# Altium footprint library Con FPC-FFC.PcbLib: 52 footprints (part 2 of 4)
Each footprint in its own frame and in the unit in brackets; x right, y up, seen from the top. Pads: shape width x height; smd on the part's side, far side on the other; paste and mask are expansions set on the pad; w line width, h text height; cw(c..) or ccw(c..) is an arc to the next point about the centre after c.
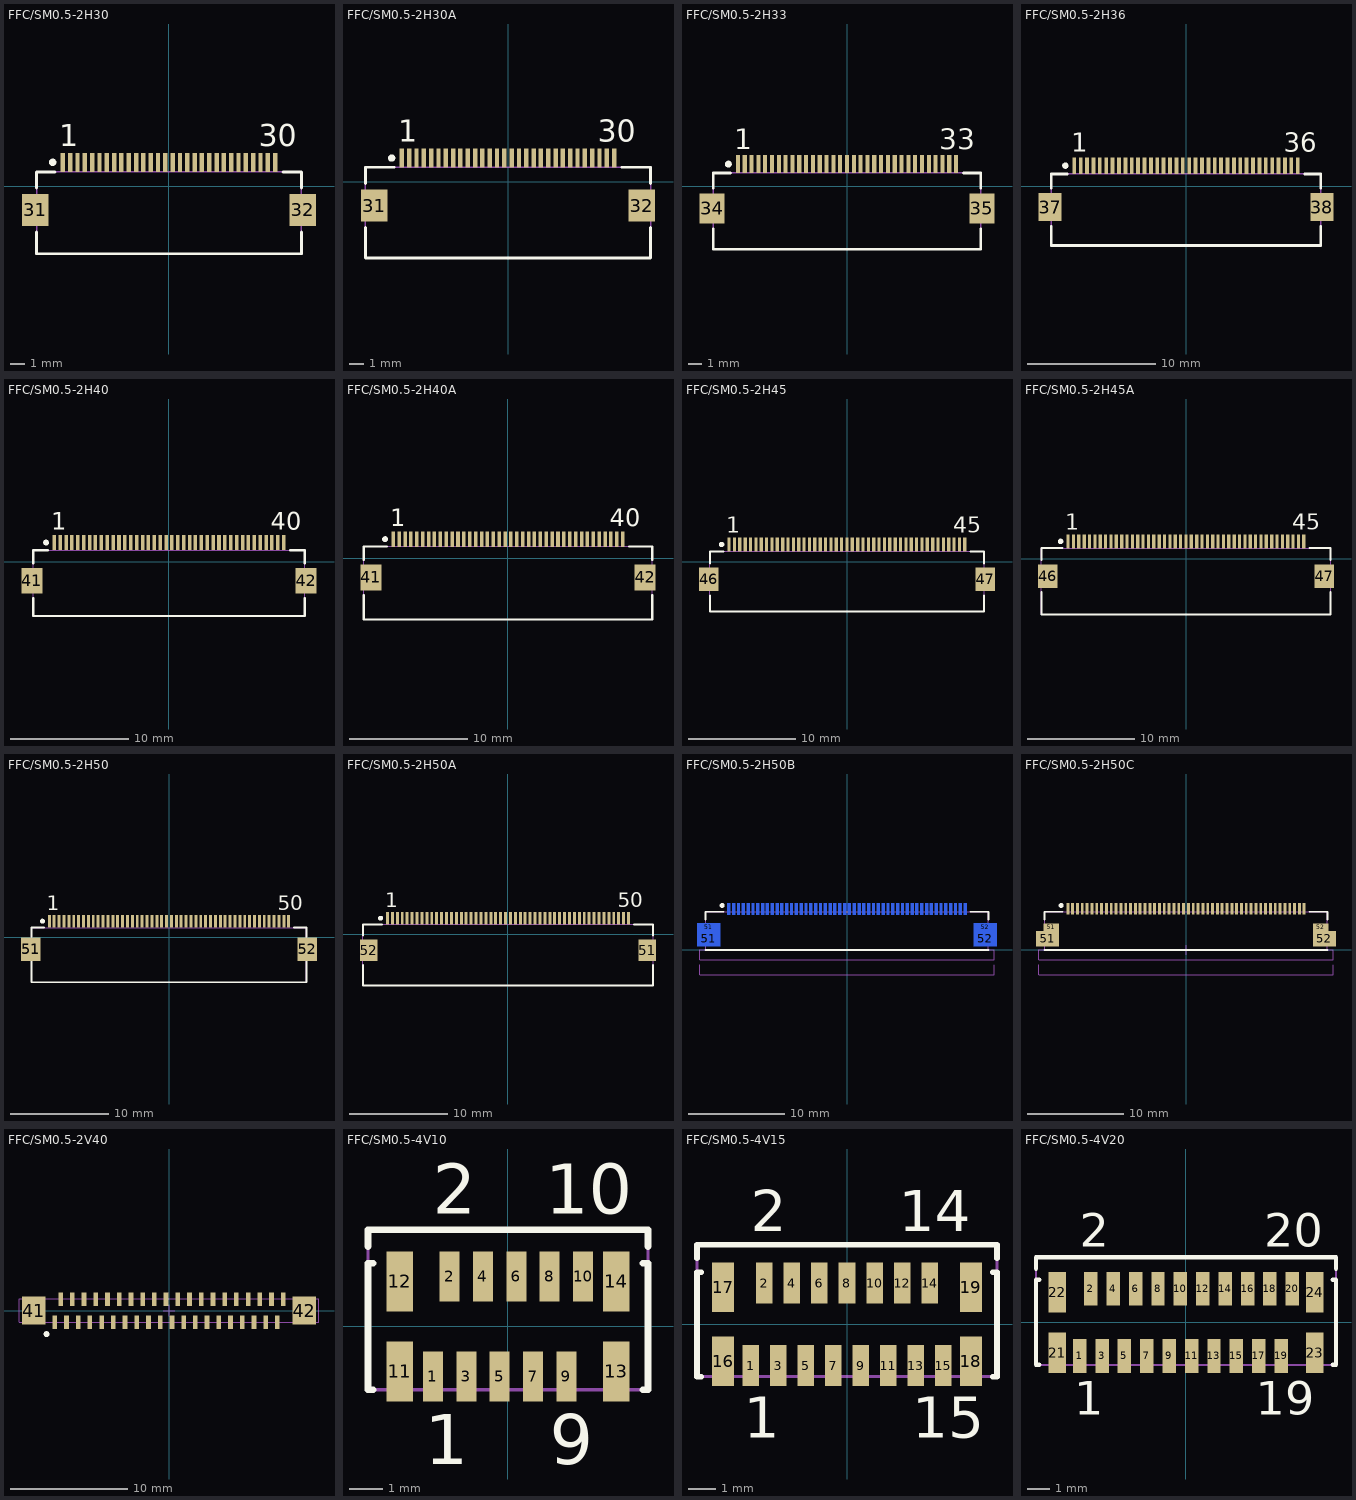
[diagram p1: the footprints below, top view; thin cyan lines are the x and y axes]

## FFC/SM0.5-2H30 [mm] "Connector; FH12 Series; 30 Position; 0.5mm Spaced Bottom Contact"
height 2
pads (32):
  rect 0.3x1.3 smd: 1(-7.25,1.625) 2(-6.75,1.625) 3(-6.25,1.625) 4(-5.75,1.625) 5(-5.25,1.625) 6(-4.75,1.625) 7(-4.25,1.625) 8(-3.75,1.625) 9(-3.25,1.625) 10(-2.75,1.625) 11(-2.25,1.625) 12(-1.75,1.625) 13(-1.25,1.625) 14(-0.75,1.625) 15(-0.25,1.625) 16(0.25,1.625) 17(0.75,1.625) 18(1.25,1.625) 19(1.75,1.625) 20(2.25,1.625) 21(2.75,1.625) 22(3.25,1.625) 23(3.75,1.625) 24(4.25,1.625) 25(4.75,1.625) 26(5.25,1.625) 27(5.75,1.625) 28(6.25,1.625) 29(6.75,1.625) 30(7.25,1.625)
  rect 1.8x2.2 smd: 31(-9.15,-1.625) 32(9.15,-1.625)
Top Overlay:
  circle w0.25: c-7.95,1.625 r0.125
  lines w0.2: -9.05,-3.125 -9.05,-4.625 9.05,-4.625 9.05,-3.125 ; -9.05,-0.125 -9.05,0.975 -7.8,0.975 ; 7.8,0.975 9.05,0.975 9.05,-0.125
  text "30" at 6.15,2.725 h1.5
  text "1" at -7.5,2.725 h1.5
Mechanical 13:
  lines w0.1: -9.05,-4.625 9.05,-4.625 9.05,0.975 -9.05,0.975 -9.05,-4.625
3D body: height 2, standoff 0, extent -9.05,-4.625 9.05,0.975

## FFC/SM0.5-2H30A [mm] "Connector; FH12 Series; 30 Position; 0.5mm Spaced Top Contact"
height 2
pads (32):
  rect 0.3x1.3 smd: 1(-7.25,1.625) 2(-6.75,1.625) 3(-6.25,1.625) 4(-5.75,1.625) 5(-5.25,1.625) 6(-4.75,1.625) 7(-4.25,1.625) 8(-3.75,1.625) 9(-3.25,1.625) 10(-2.75,1.625) 11(-2.25,1.625) 12(-1.75,1.625) 13(-1.25,1.625) 14(-0.75,1.625) 15(-0.25,1.625) 16(0.25,1.625) 17(0.75,1.625) 18(1.25,1.625) 19(1.75,1.625) 20(2.25,1.625) 21(2.75,1.625) 22(3.25,1.625) 23(3.75,1.625) 24(4.25,1.625) 25(4.75,1.625) 26(5.25,1.625) 27(5.75,1.625) 28(6.25,1.625) 29(6.75,1.625) 30(7.25,1.625)
  rect 1.8x2.2 smd: 31(-9.15,-1.625) 32(9.15,-1.625)
Top Overlay:
  circle w0.25: c-7.95,1.625 r0.125
  lines w0.2: -9.75,-3.125 -9.75,-5.2 9.75,-5.2 9.75,-3.125 ; -9.75,-0.125 -9.75,1 -7.8,1 ; 7.8,1 9.75,1 9.75,-0.125
  text "30" at 6.15,2.725 h1.5
  text "1" at -7.5,2.725 h1.5
Mechanical 13:
  lines w0.1: -9.75,-5.2 9.75,-5.2 9.75,1 -9.75,1 -9.75,-5.2
3D body: height 2, standoff 0, extent -9.75,-5.2 9.75,1

## FFC/SM0.5-2H33 [mm] "Connector; FH12 Series; 33 Position; 0.5mm Spaced Bottom Contact"
height 2
pads (35):
  rect 0.3x1.3 smd: 1(-8,1.625) 2(-7.5,1.625) 3(-7,1.625) 4(-6.5,1.625) 5(-6,1.625) 6(-5.5,1.625) 7(-5,1.625) 8(-4.5,1.625) 9(-4,1.625) 10(-3.5,1.625) 11(-3,1.625) 12(-2.5,1.625) 13(-2,1.625) 14(-1.5,1.625) 15(-1,1.625) 16(-0.5,1.625) 17(0,1.625) 18(0.5,1.625) 19(1,1.625) 20(1.5,1.625) 21(2,1.625) 22(2.5,1.625) 23(3,1.625) 24(3.5,1.625) 25(4,1.625) 26(4.5,1.625) 27(5,1.625) 28(5.5,1.625) 29(6,1.625) 30(6.5,1.625) 31(7,1.625) 32(7.5,1.625) 33(8,1.625)
  rect 1.8x2.2 smd: 34(-9.9,-1.625) 35(9.9,-1.625)
Top Overlay:
  circle w0.25: c-8.7,1.625 r0.125
  lines w0.2: -9.8,-3.125 -9.8,-4.625 9.8,-4.625 9.8,-3.125 ; -9.8,-0.125 -9.8,0.975 -8.55,0.975 ; 8.55,0.975 9.8,0.975 9.8,-0.125
  text "1" at -8.25,2.725 h1.5
  text "33" at 6.75,2.725 h1.5
Mechanical 13:
  lines w0.1: -9.8,-4.625 9.8,-4.625 9.8,0.975 -9.8,0.975 -9.8,-4.625
3D body: height 2, standoff 0, extent -9.8,-4.625 9.8,0.975

## FFC/SM0.5-2H36 [mm] "Connector; FH12 Series; 36 Position; 0.5mm Spaced Bottom Contact"
height 2
pads (38):
  rect 0.3x1.3 smd: 1(-8.75,1.625) 2(-8.25,1.625) 3(-7.75,1.625) 4(-7.25,1.625) 5(-6.75,1.625) 6(-6.25,1.625) 7(-5.75,1.625) 8(-5.25,1.625) 9(-4.75,1.625) 10(-4.25,1.625) 11(-3.75,1.625) 12(-3.25,1.625) 13(-2.75,1.625) 14(-2.25,1.625) 15(-1.75,1.625) 16(-1.25,1.625) 17(-0.75,1.625) 18(-0.25,1.625) 19(0.25,1.625) 20(0.75,1.625) 21(1.25,1.625) 22(1.75,1.625) 23(2.25,1.625) 24(2.75,1.625) 25(3.25,1.625) 26(3.75,1.625) 27(4.25,1.625) 28(4.75,1.625) 29(5.25,1.625) 30(5.75,1.625) 31(6.25,1.625) 32(6.75,1.625) 33(7.25,1.625) 34(7.75,1.625) 35(8.25,1.625) 36(8.75,1.625)
  rect 1.8x2.2 smd: 37(-10.65,-1.625) 38(10.65,-1.625)
Top Overlay:
  circle w0.25: c-9.45,1.625 r0.125
  lines w0.2: -10.55,-3.125 -10.55,-4.625 10.55,-4.625 10.55,-3.125 ; -10.55,-0.125 -10.55,0.975 -9.3,0.975 ; 9.3,0.975 10.55,0.975 10.55,-0.125
  text "1" at -9,2.725 h1.5
  text "36" at 7.65,2.725 h1.5
Mechanical 13:
  lines w0.1: -10.55,-4.625 10.55,-4.625 10.55,0.975 -10.55,0.975 -10.55,-4.625
3D body: height 2, standoff 0, extent -10.55,-4.625 10.55,0.975

## FFC/SM0.5-2H40 [mm] "Connector; FH12 Series; 40 Position; 0.5mm Spaced Bottom Contact"
height 2
pads (42):
  rect 0.3x1.3 smd: 1(-9.75,1.625) 2(-9.25,1.625) 3(-8.75,1.625) 4(-8.25,1.625) 5(-7.75,1.625) 6(-7.25,1.625) 7(-6.75,1.625) 8(-6.25,1.625) 9(-5.75,1.625) 10(-5.25,1.625) 11(-4.75,1.625) 12(-4.25,1.625) 13(-3.75,1.625) 14(-3.25,1.625) 15(-2.75,1.625) 16(-2.25,1.625) 17(-1.75,1.625) 18(-1.25,1.625) 19(-0.75,1.625) 20(-0.25,1.625) 21(0.25,1.625) 22(0.75,1.625) 23(1.25,1.625) 24(1.75,1.625) 25(2.25,1.625) 26(2.75,1.625) 27(3.25,1.625) 28(3.75,1.625) 29(4.25,1.625) 30(4.75,1.625) 31(5.25,1.625) 32(5.75,1.625) 33(6.25,1.625) 34(6.75,1.625) 35(7.25,1.625) 36(7.75,1.625) 37(8.25,1.625) 38(8.75,1.625) 39(9.25,1.625) 40(9.75,1.625)
  rect 1.8x2.2 smd: 41(-11.65,-1.625) 42(11.65,-1.625)
Top Overlay:
  circle w0.25: c-10.45,1.625 r0.125
  lines w0.2: -11.55,-3.125 -11.55,-4.625 11.55,-4.625 11.55,-3.125 ; -11.55,-0.125 -11.55,0.975 -10.3,0.975 ; 10.3,0.975 11.55,0.975 11.55,-0.125
  text "40" at 8.65,2.725 h1.5
  text "1" at -10,2.725 h1.5
Mechanical 13:
  lines w0.1: -11.55,-4.625 11.55,-4.625 11.55,0.975 -11.55,0.975 -11.55,-4.625
3D body: height 2, standoff 0, extent -11.55,-4.625 11.55,0.975

## FFC/SM0.5-2H40A [mm] "Connector; FH12 Series; 40 Position; 0.5mm Spaced Top Contact"
height 2
pads (42):
  rect 0.3x1.3 smd: 1(-9.75,1.625) 2(-9.25,1.625) 3(-8.75,1.625) 4(-8.25,1.625) 5(-7.75,1.625) 6(-7.25,1.625) 7(-6.75,1.625) 8(-6.25,1.625) 9(-5.75,1.625) 10(-5.25,1.625) 11(-4.75,1.625) 12(-4.25,1.625) 13(-3.75,1.625) 14(-3.25,1.625) 15(-2.75,1.625) 16(-2.25,1.625) 17(-1.75,1.625) 18(-1.25,1.625) 19(-0.75,1.625) 20(-0.25,1.625) 21(0.25,1.625) 22(0.75,1.625) 23(1.25,1.625) 24(1.75,1.625) 25(2.25,1.625) 26(2.75,1.625) 27(3.25,1.625) 28(3.75,1.625) 29(4.25,1.625) 30(4.75,1.625) 31(5.25,1.625) 32(5.75,1.625) 33(6.25,1.625) 34(6.75,1.625) 35(7.25,1.625) 36(7.75,1.625) 37(8.25,1.625) 38(8.75,1.625) 39(9.25,1.625) 40(9.75,1.625)
  rect 1.8x2.2 smd: 41(-11.65,-1.625) 42(11.65,-1.625)
Top Overlay:
  circle w0.25: c-10.45,1.625 r0.125
  lines w0.2: -12.25,-3.125 -12.25,-5.2 12.25,-5.2 12.25,-3.125 ; -12.25,-0.125 -12.25,1 -10.3,1 ; 10.3,1 12.25,1 12.25,-0.125
  text "40" at 8.65,2.725 h1.5
  text "1" at -10,2.725 h1.5
Mechanical 13:
  lines w0.1: -12.25,-5.2 -12.25,1 12.25,1 12.25,-5.2 -12.25,-5.2
3D body: height 2, standoff 0, extent -12.25,-5.2 12.25,1

## FFC/SM0.5-2H45 [mm] "Connector; FH12 Series; 45 Position; 0.5mm Spaced Bottom Contact"
height 2
pads (47):
  rect 0.3x1.3 smd: 1(-11,1.625) 2(-10.5,1.625) 3(-10,1.625) 4(-9.5,1.625) 5(-9,1.625) 6(-8.5,1.625) 7(-8,1.625) 8(-7.5,1.625) 9(-7,1.625) 10(-6.5,1.625) 11(-6,1.625) 12(-5.5,1.625) 13(-5,1.625) 14(-4.5,1.625) 15(-4,1.625) 16(-3.5,1.625) 17(-3,1.625) 18(-2.5,1.625) 19(-2,1.625) 20(-1.5,1.625) 21(-1,1.625) 22(-0.5,1.625) 23(0,1.625) 24(0.5,1.625) 25(1,1.625) 26(1.5,1.625) 27(2,1.625) 28(2.5,1.625) 29(3,1.625) 30(3.5,1.625) 31(4,1.625) 32(4.5,1.625) 33(5,1.625) 34(5.5,1.625) 35(6,1.625) 36(6.5,1.625) 37(7,1.625) 38(7.5,1.625) 39(8,1.625) 40(8.5,1.625) 41(9,1.625) 42(9.5,1.625) 43(10,1.625) 44(10.5,1.625) 45(11,1.625)
  rect 1.8x2.2 smd: 46(-12.9,-1.625) 47(12.9,-1.625)
Top Overlay:
  circle w0.25: c-11.7,1.625 r0.125
  lines w0.2: -12.8,-3.125 -12.8,-4.625 12.8,-4.625 12.8,-3.125 ; -12.8,-0.125 -12.8,0.975 -11.55,0.975 ; 11.55,0.975 12.8,0.975 12.8,-0.125
  text "45" at 9.9,2.725 h1.5
  text "1" at -11.25,2.725 h1.5
Mechanical 13:
  lines w0.1: -12.8,-4.625 12.8,-4.625 12.8,0.975 -12.8,0.975 -12.8,-4.625
3D body: height 2, standoff 0, extent -12.8,-4.625 12.8,0.975

## FFC/SM0.5-2H45A [mm] "Connector; FH12 Series; 45 Position; 0.5mm Spaced Top Contact"
height 2
pads (47):
  rect 0.3x1.3 smd: 1(-11,1.625) 2(-10.5,1.625) 3(-10,1.625) 4(-9.5,1.625) 5(-9,1.625) 6(-8.5,1.625) 7(-8,1.625) 8(-7.5,1.625) 9(-7,1.625) 10(-6.5,1.625) 11(-6,1.625) 12(-5.5,1.625) 13(-5,1.625) 14(-4.5,1.625) 15(-4,1.625) 16(-3.5,1.625) 17(-3,1.625) 18(-2.5,1.625) 19(-2,1.625) 20(-1.5,1.625) 21(-1,1.625) 22(-0.5,1.625) 23(0,1.625) 24(0.5,1.625) 25(1,1.625) 26(1.5,1.625) 27(2,1.625) 28(2.5,1.625) 29(3,1.625) 30(3.5,1.625) 31(4,1.625) 32(4.5,1.625) 33(5,1.625) 34(5.5,1.625) 35(6,1.625) 36(6.5,1.625) 37(7,1.625) 38(7.5,1.625) 39(8,1.625) 40(8.5,1.625) 41(9,1.625) 42(9.5,1.625) 43(10,1.625) 44(10.5,1.625) 45(11,1.625)
  rect 1.8x2.2 smd: 46(-12.9,-1.625) 47(12.9,-1.625)
Top Overlay:
  circle w0.25: c-11.7,1.625 r0.125
  lines w0.2: -13.5,-3.125 -13.5,-5.2 13.5,-5.2 13.5,-3.125 ; -13.5,-0.125 -13.5,1 -11.55,1 ; 11.55,1 13.5,1 13.5,-0.125
  text "1" at -11.25,2.725 h1.5
  text "45" at 9.9,2.725 h1.5
Mechanical 13:
  lines w0.1: -13.5,-5.2 13.5,-5.2 13.5,1 -13.5,1 -13.5,-5.2
3D body: height 2, standoff 0, extent -13.5,-5.2 13.5,1

## FFC/SM0.5-2H50 [mm] "Connector; FH12 Series; 50 Position; 0.5mm Spaced Bottom Contact"
height 2
pads (52):
  rect 0.3x1.3 smd: 1(-12.25,1.625) 2(-11.75,1.625) 3(-11.25,1.625) 4(-10.75,1.625) 5(-10.25,1.625) 6(-9.75,1.625) 7(-9.25,1.625) 8(-8.75,1.625) 9(-8.25,1.625) 10(-7.75,1.625) 11(-7.25,1.625) 12(-6.75,1.625) 13(-6.25,1.625) 14(-5.75,1.625) 15(-5.25,1.625) 16(-4.75,1.625) 17(-4.25,1.625) 18(-3.75,1.625) 19(-3.25,1.625) 20(-2.75,1.625) 21(-2.25,1.625) 22(-1.75,1.625) 23(-1.25,1.625) 24(-0.75,1.625) 25(-0.25,1.625) 26(0.25,1.625) 27(0.75,1.625) 28(1.25,1.625) 29(1.75,1.625) 30(2.25,1.625) 31(2.75,1.625) 32(3.25,1.625) 33(3.75,1.625) 34(4.25,1.625) 35(4.75,1.625) 36(5.25,1.625) 37(5.75,1.625) 38(6.25,1.625) 39(6.75,1.625) 40(7.25,1.625) 41(7.75,1.625) 42(8.25,1.625) 43(8.75,1.625) 44(9.25,1.625) 45(9.75,1.625) 46(10.25,1.625) 47(10.75,1.625) 48(11.25,1.625) 49(11.75,1.625) 50(12.25,1.625)
  rect 2x2.4 smd: 51(-14.15,-1.25) 52(14.15,-1.25)
Top Overlay:
  circle w0.25: c-12.95,1.625 r0.125
  lines w0.2: -14.05,-2.15 -14.05,-4.625 14.05,-4.625 14.05,-2.2 ; -14.05,-0.125 -14.05,0.975 -12.8,0.975 ; 12.8,0.975 14.05,0.975 14.05,-0.125
  text "1" at -12.5,2.725 h1.5
  text "50" at 11.15,2.725 h1.5
Mechanical 13:
  lines w0.1: -14.05,-4.625 -14.05,0.975 14.05,0.975 14.05,-4.625 -14.05,-4.625
3D body: height 2, standoff 0, extent -14.05,-4.625 14.05,0.975

## FFC/SM0.5-2H50A [mm] "Connector; FH12 Series; 50 Position; 0.5mm Spaced Top Contact"
height 2
pads (52):
  rect 0.3x1.3 smd: 1(-12.25,1.625) 2(-11.75,1.625) 3(-11.25,1.625) 4(-10.75,1.625) 5(-10.25,1.625) 6(-9.75,1.625) 7(-9.25,1.625) 8(-8.75,1.625) 9(-8.25,1.625) 10(-7.75,1.625) 11(-7.25,1.625) 12(-6.75,1.625) 13(-6.25,1.625) 14(-5.75,1.625) 15(-5.25,1.625) 16(-4.75,1.625) 17(-4.25,1.625) 18(-3.75,1.625) 19(-3.25,1.625) 20(-2.75,1.625) 21(-2.25,1.625) 22(-1.75,1.625) 23(-1.25,1.625) 24(-0.75,1.625) 25(-0.25,1.625) 26(0.25,1.625) 27(0.75,1.625) 28(1.25,1.625) 29(1.75,1.625) 30(2.25,1.625) 31(2.75,1.625) 32(3.25,1.625) 33(3.75,1.625) 34(4.25,1.625) 35(4.75,1.625) 36(5.25,1.625) 37(5.75,1.625) 38(6.25,1.625) 39(6.75,1.625) 40(7.25,1.625) 41(7.75,1.625) 42(8.25,1.625) 43(8.75,1.625) 44(9.25,1.625) 45(9.75,1.625) 46(10.25,1.625) 47(10.75,1.625) 48(11.25,1.625) 49(11.75,1.625) 50(12.25,1.625)
  rect 1.8x2.2 smd: 51(14.15,-1.625) 52(-14.15,-1.625)
Top Overlay:
  circle w0.25: c-12.95,1.625 r0.125
  lines w0.2: -14.75,-3.125 -14.75,-5.2 14.75,-5.2 14.75,-3.125 ; -14.75,-0.125 -14.75,1 -12.8,1 ; 12.8,1 14.75,1 14.75,-0.125
  text "1" at -12.5,2.725 h1.5
  text "50" at 11.15,2.725 h1.5
Mechanical 13:
  lines w0.1: -14.75,-5.2 -14.75,1 14.75,1 14.75,-5.2 -14.75,-5.2
3D body: height 2, standoff 0, extent -14.75,-5.2 14.75,1

## FFC/SM0.5-2H50B [mm] "Connector; FPC/FFC, SM, 50 Position, Right Angle, Pitch 0.50mm, Body 30.5x5.0mm (LxW), Bottom Contatcts"
height 2
pads (54):
  rect 0.3x1.2 smd far side: 1(-12.25,4.25) 2(-11.75,4.25) 3(-11.25,4.25) 4(-10.75,4.25) 5(-10.25,4.25) 6(-9.75,4.25) 7(-9.25,4.25) 8(-8.75,4.25) 9(-8.25,4.25) 10(-7.75,4.25) 11(-7.25,4.25) 12(-6.75,4.25) 13(-6.25,4.25) 14(-5.75,4.25) 15(-5.25,4.25) 16(-4.75,4.25) 17(-4.25,4.25) 18(-3.75,4.25) 19(-3.25,4.25) 20(-2.75,4.25) 21(-2.25,4.25) 22(-1.75,4.25) 23(-1.25,4.25) 24(-0.75,4.25) 25(-0.25,4.25) 26(0.25,4.25) 27(0.75,4.25) 28(1.25,4.25) 29(1.75,4.25) 30(2.25,4.25) 31(2.75,4.25) 32(3.25,4.25) 33(3.75,4.25) 34(4.25,4.25) 35(4.75,4.25) 36(5.25,4.25) 37(5.75,4.25) 38(6.25,4.25) 39(6.75,4.25) 40(7.25,4.25) 41(7.75,4.25) 42(8.25,4.25) 43(8.75,4.25) 44(9.25,4.25) 45(9.75,4.25) 46(10.25,4.25) 47(10.75,4.25) 48(11.25,4.25) 49(11.75,4.25) 50(12.25,4.25)
  rect 2.4x1.6 smd far side: 51(-14.35,1.15) 52(14.35,1.15)
  rect 2.4x0.8 smd far side: 51(-14.35,2.35) 52(14.35,2.35)
Top Overlay:
  circle w0.25: c-12.95,4.6 r0.125
  lines w0.2: -14.65,0 14.65,0 ; -14.65,3.15 -14.65,3.95 -12.8,3.95 ; 12.8,3.95 14.65,3.95 14.65,3.15
Mechanical 13:
  lines w0.1: -15.25,-1.55 -15.25,-2.6 15.25,-2.6 15.25,-1.55 ; -15.25,-1.05 -15.25,0 15.25,0 15.25,-1.05 -15.25,-1.05 ; -14.65,0 14.65,0 14.65,3.95 -14.65,3.95 -14.65,0
3D body: height 2, standoff 0, extent -15.249,-1.049 15.249,-0.001
3D body: height 2, standoff 0, extent -14.649,0.001 14.649,3.949

## FFC/SM0.5-2H50C [mm] "Connector; FPC/FFC, SM, 50 Position, Right Angle, Pitch 0.50mm, Body 30.5x5.0mm (LxW), Top Contacts"
height 2
pads (54):
  rect 0.3x1.2 smd: 1(-12.25,4.25) 2(-11.75,4.25) 3(-11.25,4.25) 4(-10.75,4.25) 5(-10.25,4.25) 6(-9.75,4.25) 7(-9.25,4.25) 8(-8.75,4.25) 9(-8.25,4.25) 10(-7.75,4.25) 11(-7.25,4.25) 12(-6.75,4.25) 13(-6.25,4.25) 14(-5.75,4.25) 15(-5.25,4.25) 16(-4.75,4.25) 17(-4.25,4.25) 18(-3.75,4.25) 19(-3.25,4.25) 20(-2.75,4.25) 21(-2.25,4.25) 22(-1.75,4.25) 23(-1.25,4.25) 24(-0.75,4.25) 25(-0.25,4.25) 26(0.25,4.25) 27(0.75,4.25) 28(1.25,4.25) 29(1.75,4.25) 30(2.25,4.25) 31(2.75,4.25) 32(3.25,4.25) 33(3.75,4.25) 34(4.25,4.25) 35(4.75,4.25) 36(5.25,4.25) 37(5.75,4.25) 38(6.25,4.25) 39(6.75,4.25) 40(7.25,4.25) 41(7.75,4.25) 42(8.25,4.25) 43(8.75,4.25) 44(9.25,4.25) 45(9.75,4.25) 46(10.25,4.25) 47(10.75,4.25) 48(11.25,4.25) 49(11.75,4.25) 50(12.25,4.25)
  rect 2.4x1.6 smd: 51(-14.35,1.15) 52(14.35,1.15)
  rect 1.6x0.8 smd: 51(-13.95,2.35) 52(13.95,2.35)
Top Overlay:
  circle w0.25: c-12.95,4.6 r0.125
  lines w0.2: -14.65,0 14.65,0 ; -14.65,3.15 -14.65,3.95 -12.8,3.95 ; 12.8,3.95 14.65,3.95 14.65,3.15
Mechanical 13:
  lines w0.1: -15.25,-1.55 -15.25,-2.6 15.25,-2.6 15.25,-1.55 ; -15.25,-1.05 -15.25,0 15.25,0 15.25,-1.05 -15.25,-1.05 ; -14.65,0 14.65,0 14.65,3.95 -14.65,3.95 -14.65,0
Mechanical 15:
  lines w0.1: -0.5,0 0.5,0 ; 0,-0.5 0,0.5
3D body: height 2, standoff 0, extent -15.249,-1.049 15.249,-0.001
3D body: height 2, standoff 0, extent -14.649,0.001 14.649,3.949

## FFC/SM0.5-2V40 [mm] "Connector; ZIF FPC 40 Position; 0.5mm Spaced Vertical Mounting"
height 4.9
pads (42):
  rect 0.4x1.15 smd: 1(-9.75,-0.975) 2(-9.25,0.975) 3(-8.75,-0.975) 4(-8.25,0.975) 5(-7.75,-0.975) 6(-7.25,0.975) 7(-6.75,-0.975) 8(-6.25,0.975) 9(-5.75,-0.975) 10(-5.25,0.975) 11(-4.75,-0.975) 12(-4.25,0.975) 13(-3.75,-0.975) 14(-3.25,0.975) 15(-2.75,-0.975) 16(-2.25,0.975) 17(-1.75,-0.975) 18(-1.25,0.975) 19(-0.75,-0.975) 20(-0.25,0.975) 21(0.25,-0.975) 22(0.75,0.975) 23(1.25,-0.975) 24(1.75,0.975) 25(2.25,-0.975) 26(2.75,0.975) 27(3.25,-0.975) 28(3.75,0.975) 29(4.25,-0.975) 30(4.75,0.975) 31(5.25,-0.975) 32(5.75,0.975) 33(6.25,-0.975) 34(6.75,0.975) 35(7.25,-0.975) 36(7.75,0.975) 37(8.25,-0.975) 38(8.75,0.975) 39(9.25,-0.975) 40(9.75,0.975)
  rect 2x2.4 smd: 41(-11.55,0) 42(11.55,0)
Top Overlay:
  circle w0.25: c-10.45,-2 r0.125
Mechanical 13:
  lines w0.1: -12.25,-1 -12.25,1 ; 12.25,-1 12.25,1 ; -12.8,-1 -12.8,1 12.8,1 12.8,-1 -12.8,-1
Mechanical 15:
  lines w0.1: -0.5,0 0.5,0 ; 0,-0.5 0,0.5
3D body: height 4.9, standoff 0, extent -12.249,-0.999 12.249,0.999

## FFC/SM0.5-4V10 [mm] "Connector; FH12 Series; 10 Position; 0.5mm Spaced Vertical Mounting"
height 4.85
pads (14):
  rect 0.6x1.5 smd: 1(-2.25,-1.5) 2(-1.75,1.5) 3(-1.25,-1.5) 4(-0.75,1.5) 5(-0.25,-1.5) 6(0.25,1.5) 7(0.75,-1.5) 8(1.25,1.5) 9(1.75,-1.5) 10(2.25,1.5)
  rect 0.8x1.8 smd: 11(-3.25,-1.35) 12(-3.25,1.35) 13(3.25,-1.35) 14(3.25,1.35)
Top Overlay:
  lines w0.2: -4.2,2.4 -4.2,2.9 4.2,2.9 4.2,2.4 ; -4.05,-1.9 -4.2,-1.9 -4.2,1.9 -4.05,1.9 ; 4.05,-1.9 4.2,-1.9 4.2,1.9 4.05,1.9
  text "9" at 1.25,-4.125 h1.5
  text "10" at 1.125,3.375 h1.5
  text "1" at -2.5,-4.125 h1.5
  text "2" at -2.25,3.375 h1.5
Mechanical 13:
  lines w0.1: -4.2,-1.9 -4.2,2.9 4.2,2.9 4.2,-1.9 -4.2,-1.9
3D body: height 4.85, standoff 0, extent -4.2,-1.9 4.2,2.9

## FFC/SM0.5-4V15 [mm] "Connector; FH12 Series; 15 Position; 0.5mm Spaced Vertical Mounting"
height 4.85
pads (19):
  rect 0.6x1.5 smd: 1(-3.5,-1.5) 2(-3,1.5) 3(-2.5,-1.5) 4(-2,1.5) 5(-1.5,-1.5) 6(-1,1.5) 7(-0.5,-1.5) 8(0,1.5) 9(0.5,-1.5) 10(1,1.5) 11(1.5,-1.5) 12(2,1.5) 13(2.5,-1.5) 14(3,1.5) 15(3.5,-1.5)
  rect 0.8x1.8 smd: 16(-4.5,-1.35) 17(-4.5,1.35) 18(4.5,-1.35) 19(4.5,1.35)
Top Overlay:
  lines w0.2: -5.45,2.4 -5.45,2.9 5.45,2.9 5.45,2.4 ; -5.3,-1.9 -5.45,-1.9 -5.45,1.9 -5.3,1.9 ; 5.3,-1.9 5.45,-1.9 5.45,1.9 5.3,1.9
  text "14" at 1.875,3.375 h1.5
  text "1" at -3.75,-4.125 h1.5
  text "2" at -3.5,3.375 h1.5
  text "15" at 2.375,-4.125 h1.5
Mechanical 13:
  lines w0.1: -5.45,-1.9 5.45,-1.9 5.45,2.9 -5.45,2.9 -5.45,-1.9
3D body: height 4.85, standoff 0, extent -5.45,-1.9 5.45,2.9

## FFC/SM0.5-4V20 [mm] "Connector; FH12 Series; 20 Position; 0.5mm Spaced Vertical Mounting"
height 4.85
pads (24):
  rect 0.6x1.5 smd: 1(-4.75,-1.5) 2(-4.25,1.5) 3(-3.75,-1.5) 4(-3.25,1.5) 5(-2.75,-1.5) 6(-2.25,1.5) 7(-1.75,-1.5) 8(-1.25,1.5) 9(-0.75,-1.5) 10(-0.25,1.5) 11(0.25,-1.5) 12(0.75,1.5) 13(1.25,-1.5) 14(1.75,1.5) 15(2.25,-1.5) 16(2.75,1.5) 17(3.25,-1.5) 18(3.75,1.5) 19(4.25,-1.5) 20(4.75,1.5)
  rect 0.8x1.8 smd: 21(-5.75,-1.35) 22(-5.75,1.35) 23(5.75,-1.35) 24(5.75,1.35)
Top Overlay:
  lines w0.2: -6.7,2.4 -6.7,2.9 6.7,2.9 6.7,2.4 ; -6.55,-1.9 -6.7,-1.9 -6.7,1.9 -6.55,1.9 ; 6.55,-1.9 6.7,-1.9 6.7,1.9 6.55,1.9
  text "1" at -5,-4.125 h1.5
  text "2" at -4.75,3.375 h1.5
  text "20" at 3.5,3.375 h1.5
  text "19" at 3.125,-4.125 h1.5
Mechanical 13:
  lines w0.1: -6.7,-1.9 6.7,-1.9 6.7,2.9 -6.7,2.9 -6.7,-1.9
3D body: height 4.85, standoff 0, extent -6.7,-1.9 6.7,2.9